# Altium schematic symbol library Resistors.SchLib: 17 symbols
Pins are listed as number, name and electrical type; pins without a type are passive.

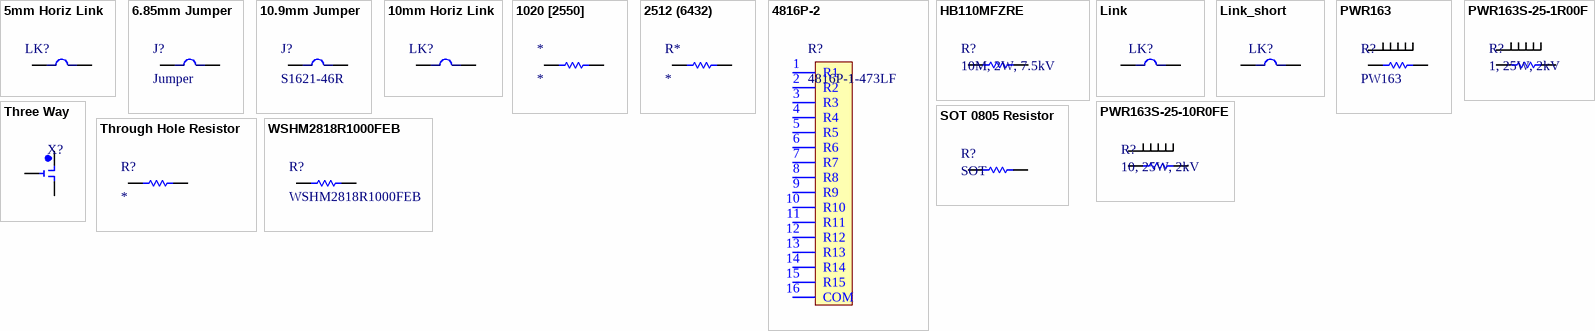
[diagram p0: symbols 5mm Horiz Link to WSHM2818R1000FEB]

## 5mm Horiz Link
designator LK?, comment Jumper  (value not drawn)
footprint 5mm Pad (Medium linking pads)
pins: 1, 2

## 6.85mm Jumper
designator J?, comment Jumper
6.85mm Jumper; Supplier 1: Farnell; Supplier 2: Mouser; Supplier 3: RSComponents; Supplier Part Number 1: 2411183; Supplier Part Number 2: 855-S1731-46R; Supplier Part Number 3: 7884827
footprint 6.85mm Jumper
pins: 1, 2

## 10.9mm Jumper
designator J?, comment S1621-46R
10.9mm Jumper; Supplier 1: Mouser; Supplier 2: Farnell; Supplier 3: RSComponents; Supplier Part Number 1: 855-S1621-46R; Supplier Part Number 2: 2751488; Supplier Part Number 3: 788-4818P
footprint 10.9mm Jumper
pins: 1, 2

## 10mm Horiz Link
designator LK?, comment Jumper  (value not drawn)
footprint 10mm Pads (Large linking pads)
pins: 1, 2

## 1020 [2550]
designator *
footprint 1020 [2550 Metric] (Chip Resistor, 2-Leads, Body 2.50x5.00mm, IPC Medium Density)
pins: 1, 2

## 2512 (6432)
designator R*
footprint 2512(6432)
pins: 1, 2

## 4816P-2
designator R?, comment 4816P-1-473LF
Isolated Resistor Network; Supplier 1: Digi-Key; Supplier 2: Digi-Key; Supplier 3: Mouser; Supplier Part Number 1: 4816P-2-203LF-ND; Supplier Part Number 2: 4816P-2-203LFTR-ND; Supplier Part Number 3: 652-4816P-2LF-20K; Supplier 4: RSComponents; Supplier Part Number 4: 8652047
footprint 4816P-2 busrespak (SOIC, 16-Leads, Body 11.35x5.80mm, Pitch 1.27mm, IPC Medium Density)
pins: 1 R1, 2 R2, 3 R3, 4 R4, 5 R5, 6 R6, 7 R7, 8 R8, 9 R9, 10 R10, 11 R11, 12 R12, 13 R13, 14 R14, 15 R15, 16 COM

## HB110MFZRE
designator R?, comment 10M, 2W, 7.5kV
10 Mohm, HB Series, 2 W, 7.5kV; Supplier 1: Octopart; Supplier 2: Octopart; Supplier Part Number 1: RS Components - 2960572; Supplier Part Number 2: Mouser - 279-HB110MFZRE
footprint HB110MFZRE (10 Mohm, HB Series, 2 W, 7.5kV)
pins: 1, 2

## Link
designator LK?, comment Solder Link  (value not drawn)
footprint Link
footprint Link_short (link)
pins: 1, 2

## Link_short
designator LK?, comment Solder Link  (value not drawn)
footprint Link_short (link)
pins: 1, 2

## PWR163
designator R?, comment PW163
2kV, 25W, Resistor range; Supplier 1: Farnell; Supplier Part Number 1: 2328183
footprint PWR163
pins: 1, 2, 3

## PWR163S-25-1R00F
designator R?, comment 1, 25W, 2kV
Supplier 1: Mouser; Supplier Part Number 1: 652-PWR163S-25-1R00F
footprint PWR163
pins: 1, 2, 3

## PWR163S-25-10R0FE
designator R?, comment 10, 25W, 2kV
25W, 10 ohm; Supplier 1: Mouser; Supplier Part Number 1: 652-PWR163S2510R0FE
footprint PWR163
pins: 1, 2, 3

## SOT 0805 Resistor
designator R?, comment SOT
Select on test 0805 resistor
footprint SOT 0805 Chip2PinSM127P600-8N (select on test component)
pins: 1, 2

## Three Way
designator X?
Three way pads
footprint Three way (Three way selection)
pins: 1, 2, 3

## Through Hole Resistor
designator R?
footprint Through Hole Resistor
pins: 1, 2

## WSHM2818R1000FEB
designator R?
7W, 0.1 Ohm, Resistor; Supplier 1: Farnell; Supplier Part Number 1: 2469461
footprint WSHM2818 (Vishey WSHM2818 series of resistors)
pins: 1, 2